# Altium schematic symbol library SD-card holder.Schlib: 1 symbol
Pins are listed as number, name and electrical type; pins without a type are passive.

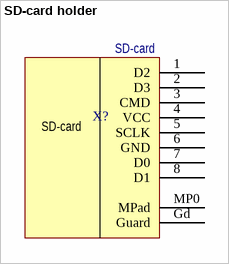
[diagram p0: symbol SD-card holder]

## SD-card holder
designator X?, comment SD-card
SD-card holder; Назначение: Слот под SD-карту; Наименование: SD-card
footprint SD-card holder (SD-card)
pins: 1 D2, 2 D3, 3 CMD, 4 VCC, 5 SCLK, 6 GND, 7 D0, 8 D1, Gd Guard, MP0 MPad